# EAGLE library part BTS724G (library isystems)
Smart High-Side Power Switch Four Channels: 4x90mΩ Status Feedback Operating temperature range: -40 ... +150°C Operating Voltage: 5.5 ... 40V Power dissipation (DC): 3.6W @25°C 1.9W @85°C Active channels one four parallel Nominal load current 3.3A 7.3A current limitation 12A 12A On-state Resistance 90mΩ 22.5mΩ Datasheet: http://www.infineon.com/dgdl/BTS724G.pdf?folderId=db3a304314dca389011537739e37155f&fileId=db3a304316f112290116f299e245725c
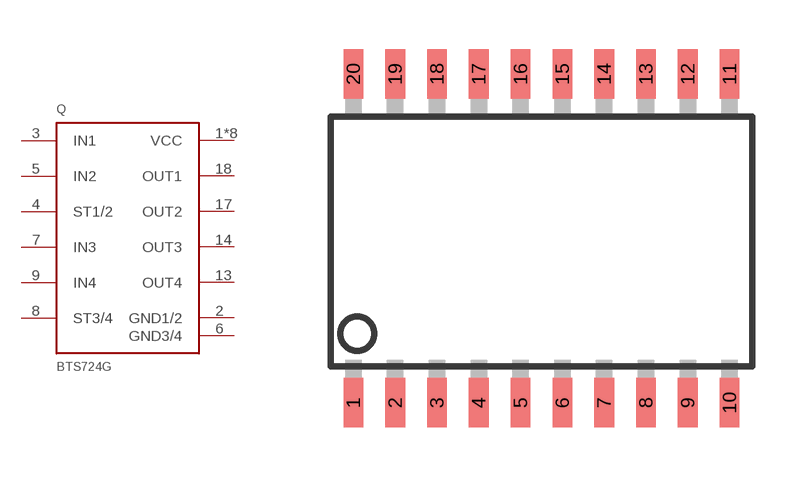
[diagram p38: symbol with the pads of SOIC20S; footprint SOIC20S]

Designator prefix Q

## BTS724G  [SOIC20S]
1  VCC  pwr
2  GND1/2  pwr
3  IN1  in
4  ST1/2  oc
5  IN2  in
6  GND3/4  pwr
7  IN3  in
8  ST3/4  oc
9  IN4  in
10  VCC  pwr
11  VCC  pwr
12  VCC  pwr
13  OUT4  out
14  OUT3  out
15  VCC  pwr
16  VCC  pwr
17  OUT2  out
18  OUT1  out
19  VCC  pwr
20  VCC  pwr

## Footprint SOIC20S (pad centres in mm)
Wide Plastic Gull Wing Small Outline Package
smd 0.6 x 1.5: 1 -5.715,-5; 2 -4.445,-5; 3 -3.175,-5; 4 -1.905,-5; 5 -0.635,-5; 6 0.635,-5; 7 1.905,-5; 8 3.175,-5; 9 4.445,-5; 10 5.715,-5; 11 5.715,5; 12 4.445,5; 13 3.175,5; 14 1.905,5; 15 0.635,5; 16 -0.635,5; 17 -1.905,5; 18 -3.175,5; 19 -4.445,5; 20 -5.715,5